# EAGLE library part MATRIX_8X8_TRICOLOR_ANODE_ROW (library matrix)
RGB 8x8 LED Matrix This variety of display has one anode pin for each row, and three cathode pins for each column. Each anode is shared by red, green and blue cathodes for each cell in the matrix. This part matches the matrix sold by LEDsee.com (SKU: RGBMATRIX) and Seeedstudio.com (SKU: LEDRGBMatrix). The datasheet lists the source as "Guoyexing Optoelectronics Co. Ltd.," part number GYXM-2388AURPGB.
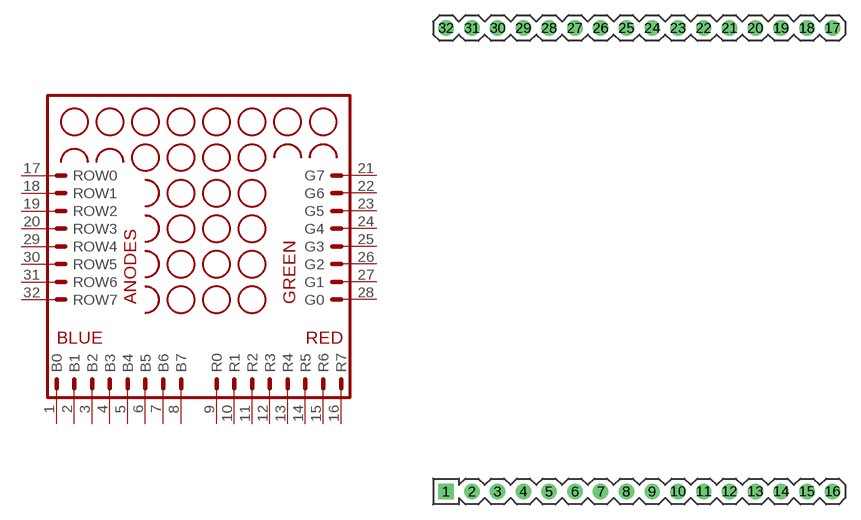
[diagram p0: symbol with the pads of MATRIX_60MM_32PIN; footprint MATRIX_60MM_32PIN]

Designator prefix MX

## MATRIX_8X8_TRICOLOR_ANODE_ROW  [MATRIX_60MM_32PIN]
1  B0  out
2  B1  out
3  B2  out
4  B3  out
5  B4  out
6  B5  out
7  B6  out
8  B7  out
9  R0  out
10  R1  out
11  R2  out
12  R3  out
13  R4  out
14  R5  out
15  R6  out
16  R7  out
17  ROW0  in
18  ROW1  in
19  ROW2  in
20  ROW3  in
21  G7  out
22  G6  out
23  G5  out
24  G4  out
25  G3  out
26  G2  out
27  G1  out
28  G0  out
29  ROW4  in
30  ROW5  in
31  ROW6  in
32  ROW7  in

## Footprint MATRIX_60MM_32PIN (pad centres in mm)
60mm Square Display with 32 Pins This package is a common layout for 60mm LED Matrix devices with 32 pins. An outline is drawn on the Measures layer, if you need to see the physical boundary of the display. It is not drawn in the silkscreen layer, since the outline may collide with low-profile parts far away from the pins of the matrix device. The outline shows "key" features around the perimeter, either protruding or sunk into the square edge. Most matrix components use this scheme instead of a dent near pin one.
drill 1.016 square: 1 -19.05,-22.86
drill 1.016 round: 2 -16.51,-22.86; 3 -13.97,-22.86; 4 -11.43,-22.86; 5 -8.89,-22.86; 6 -6.35,-22.86; 7 -3.81,-22.86; 8 -1.27,-22.86; 9 1.27,-22.86; 10 3.81,-22.86; 11 6.35,-22.86; 12 8.89,-22.86; 13 11.43,-22.86; 14 13.97,-22.86; 15 16.51,-22.86; 16 19.05,-22.86; 17 19.05,22.86; 18 16.51,22.86; 19 13.97,22.86; 20 11.43,22.86; 21 8.89,22.86; 22 6.35,22.86; 23 3.81,22.86; 24 1.27,22.86; 25 -1.27,22.86; 26 -3.81,22.86; 27 -6.35,22.86; 28 -8.89,22.86; 29 -11.43,22.86; 30 -13.97,22.86; 31 -16.51,22.86; 32 -19.05,22.86